# Altium footprint library SparkFun-RF.PCBLIB: 87 footprints (part 1 of 6)
Each footprint in its own frame and in the unit in brackets; x right, y up, seen from the top. Pads: shape width x height; smd on the part's side, far side on the other; paste and mask are expansions set on the pad; w line width, h text height; cw(c..) or ccw(c..) is an arc to the next point about the centre after c.
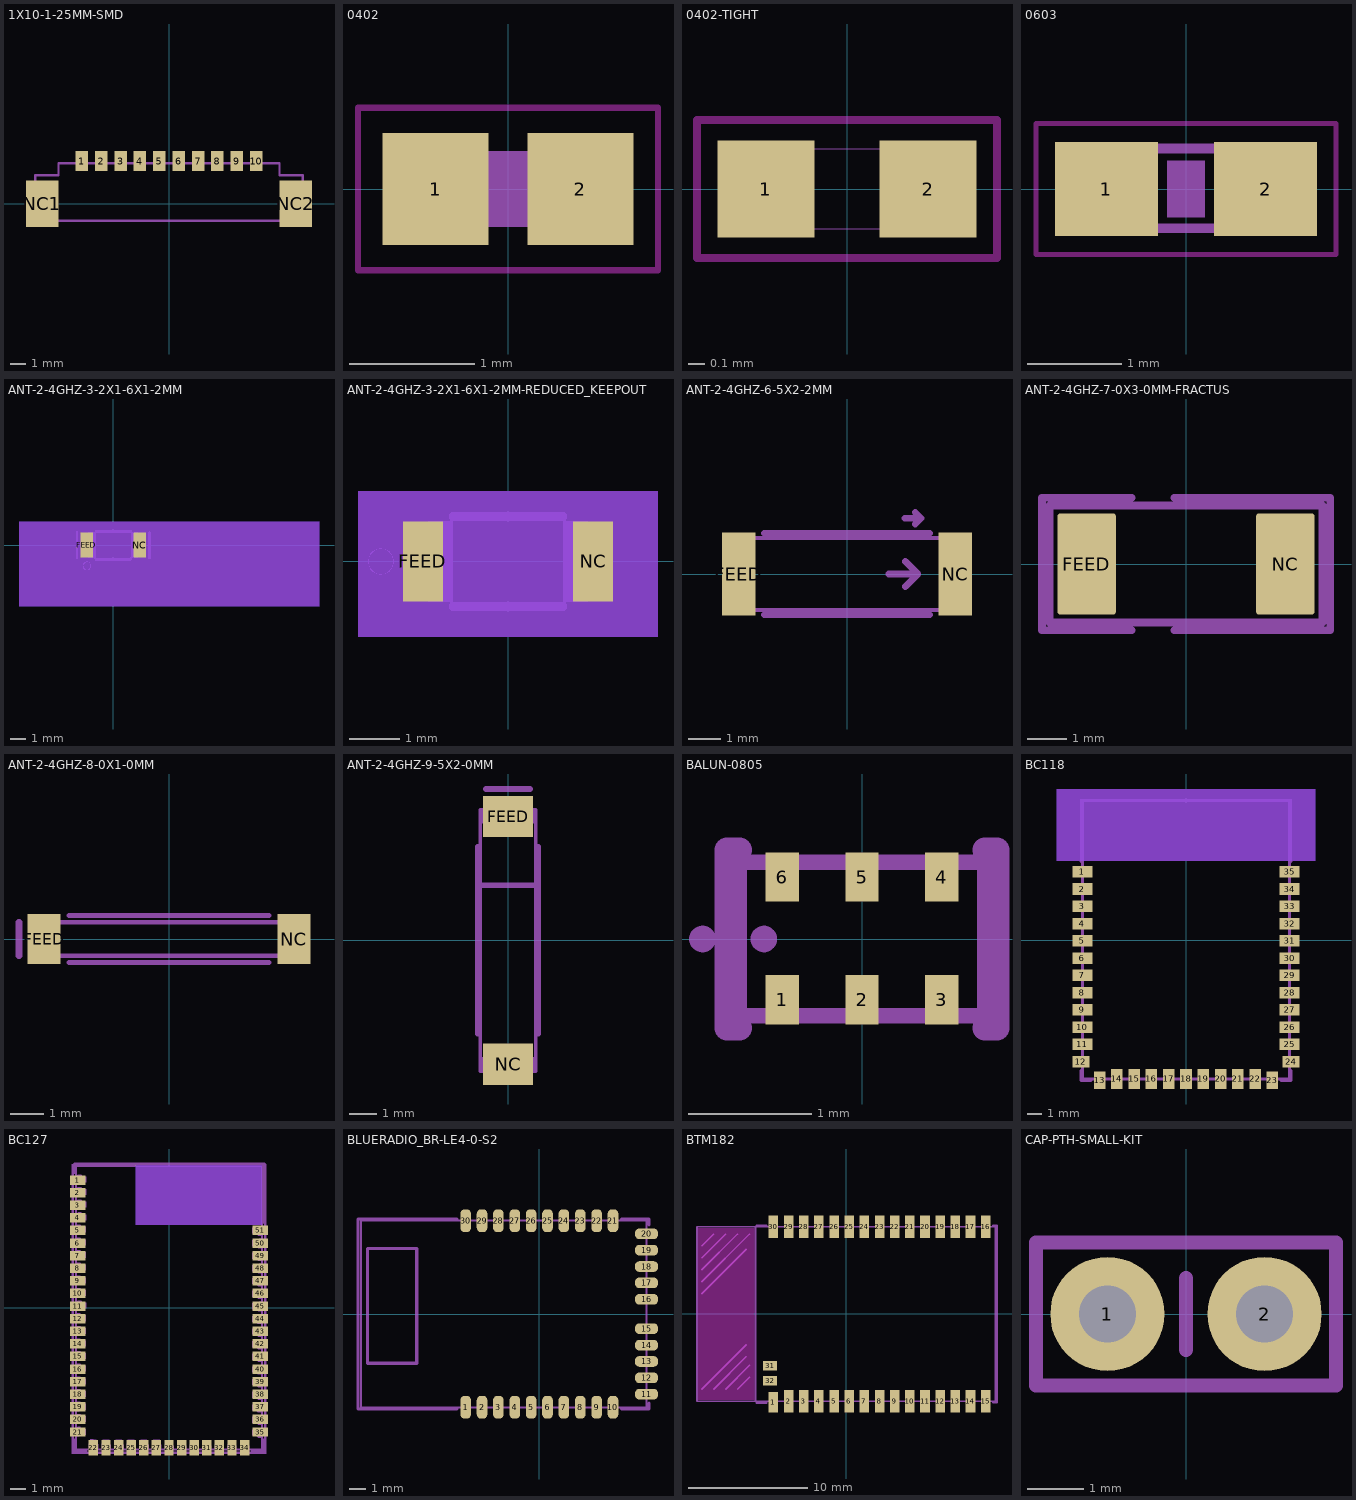
[diagram p0: the footprints below, top view; thin cyan lines are the x and y axes]

## 1X10-1-25MM-SMD [mil]
pads (12):
  rect 31.5x51.18 smd: 1(-221.46,108.27) 2(-172.24,108.27) 3(-123.03,108.27) 4(-73.82,108.27) 5(-24.61,108.27) 6(24.61,108.27) 7(73.82,108.27) 8(123.03,108.27) 9(172.24,108.27) 10(221.46,108.27)
  rect 82.68x118.11 smd: NC1(-321.85,0) NC2(321.85,0)
tDocu:
  lines w6: -339.57,71.93 -339.57,-43.31 339.57,-43.31 339.57,71.93 ; -280.51,102.36 280.51,102.36
tPlace:
  lines w6: -339.57,71.93 -280.51,71.93 -280.51,102.36 ; -279.53,102.36 -248.03,102.36 ; -267.72,-43.31 267.72,-43.31 ; 248.03,102.36 279.53,102.36 ; 280.51,102.36 280.51,71.93 339.57,71.93

## 0402 [mm]
pads (2):
  rect 0.85x0.9 smd: 1(-0.58,0) 2(0.58,0)
Top keep-out:
  lines w0.051: -1.2,-0.65 1.2,-0.65 1.2,0.65 -1.2,0.65 -1.2,-0.65
tDocu:
  region: -0.554,-0.305 -0.554,0.305 -0.254,0.305 -0.254,-0.305
  region: 0.259,-0.305 0.259,0.305 0.559,0.305 0.559,-0.305
  lines w0.152: -0.271,-0.229 0.271,-0.229 ; -0.271,0.229 0.271,0.229
tGlue:
  region: -0.2,-0.3 -0.2,0.3 0.2,0.3 0.2,-0.3

## 0402-TIGHT [mm]
pads (2):
  rect 0.6x0.6 smd: 1(-0.5,0) 2(0.5,0)
Top keep-out:
  lines w0.05: -0.926,-0.426 -0.926,0.426 0.926,0.426 0.926,-0.426 -0.926,-0.426
tDocu:
  region: -0.5,-0.25 -0.5,0.25 -0.3,0.25 -0.3,-0.25
  region: 0.5,0.25 0.5,-0.25 0.3,-0.25 0.3,0.25
  lines w0.003: -0.5,-0.25 -0.5,0.25 0.5,0.25 0.5,-0.25 -0.5,-0.25

## 0603 [mm]
pads (2):
  rect 1.1x1 smd: 1(-0.85,0) 2(0.85,0)
Top keep-out:
  lines w0.051: -1.6,-0.7 1.6,-0.7 1.6,0.7 -1.6,0.7 -1.6,-0.7
tDocu:
  region: -0.838,-0.47 -0.838,0.48 -0.338,0.48 -0.338,-0.47
  region: 0.33,-0.47 0.33,0.48 0.83,0.48 0.83,-0.47
  lines w0.102: -0.356,-0.419 0.356,-0.419 ; -0.356,0.432 0.356,0.432
tGlue:
  region: -0.2,-0.3 -0.2,0.3 0.2,0.3 0.2,-0.3

## ANT-2-4GHZ-3-2X1-6X1-2MM [mil]
pads (2):
  rect 31.5x62.99 smd: FEED(-66.93,0) NC(66.93,0)
Top keep-out:
  region: -236.22,-153.54 -236.22,59.06 515.75,59.06 515.75,-153.54
  region: -236.22,-153.54 -236.22,59.06 515.75,59.06 515.75,-153.54
Bottom keep-out:
  region: -236.22,-153.54 -236.22,59.06 515.75,59.06 515.75,-153.54
tDocu:
  region: -62.99,-31.5 -62.99,31.5 -43.31,31.5 -43.31,-31.5
  region: 43.31,-31.5 43.31,31.5 62.99,31.5 62.99,-31.5
  lines w0.1: -62.99,-31.5 -62.99,31.5 62.99,31.5 62.99,-31.5 -62.99,-31.5
tPlace:
  circle w0: c-66,-52 r10
  lines w8: -90.99,-31.5 -90.99,31.5 ; -42.99,-35.5 42.99,-35.5 ; -42.99,35.5 42.99,35.5 ; 90.99,-31.5 90.99,31.5

## ANT-2-4GHZ-3-2X1-6X1-2MM-REDUCED_KEEPOUT [mil]
pads (2):
  rect 31.5x62.99 smd: FEED(-66.93,0) NC(66.93,0)
Top keep-out:
  region: -118.11,-59.06 -118.11,55.12 118.11,55.12 118.11,-59.06
Route2:
  region: -118.11,-59.06 -118.11,55.12 118.11,55.12 118.11,-59.06
Route15:
  region: -118.11,-59.06 -118.11,55.12 118.11,55.12 118.11,-59.06
Bottom keep-out:
  region: -118.11,-59.06 -118.11,55.12 118.11,55.12 118.11,-59.06
tDocu:
  region: -62.99,-31.5 -62.99,31.5 -43.31,31.5 -43.31,-31.5
  region: 43.31,-31.5 43.31,31.5 62.99,31.5 62.99,-31.5
  lines w0.1: -62.99,-31.5 -62.99,31.5 62.99,31.5 62.99,-31.5 -62.99,-31.5
tPlace:
  circle w0: c-100,0 r10
  lines w8: -42.99,-35.5 42.99,-35.5 ; -42.99,35.5 42.99,35.5

## ANT-2-4GHZ-6-5X2-2MM [mil]
pads (2):
  rect 40x100 smd: FEED(-130,0) NC(130,0)
tDocu:
  lines w5: -127.95,-43.31 -127.95,43.31 127.95,43.31 127.95,-43.31 -127.95,-43.31
  text "AF" at 20,5 h49.6
tPlace:
  lines w8: -98.94,-48.94 98.94,-48.94 ; -98.94,48.94 98.94,48.94 ; 50,0 85,0 ; 69.69,66.93 88.94,66.93 ; 70,-15 85,0 ; 70,15 85,0 ; 81.81,59.8 88.94,66.93 ; 81.81,74.06 88.94,66.93

## ANT-2-4GHZ-7-0X3-0MM-FRACTUS [mm]
pads (2):
  rrect10% 1.5x2.6 smd: FEED(-2.55,0) NC(2.55,0)
tDocu:
  lines w0.203: -3.5,-1.5 -3.5,1.5 3.5,1.5 3.5,-1.5 -3.5,-1.5
tPlace:
  lines w0.2: -0.3,-1.7 3.7,-1.7 3.7,1.7 -0.3,1.7
  lines w0.203: -1.4,-1.7 -3.7,-1.7 -3.7,1.7 -1.4,1.7

## ANT-2-4GHZ-8-0X1-0MM [mm]
pads (2):
  rect 1x1.5 smd: FEED(-3.75,0) NC(3.75,0)
tDocu:
  lines w0.127: -4,-0.5 4,-0.5 4,0.5 -4,0.5 -4,-0.5
tPlace:
  lines w0.152: -3,-0.7 3,-0.7 ; -3,0.7 3,0.7
  lines w0.203: -4.5,-0.5 -4.5,0.5

## ANT-2-4GHZ-9-5X2-0MM [mm]
pads (2):
  rect 1.8x1.5 smd: FEED(0,4.5) NC(0,-4.5)
tDocu:
  region: -1,-4.75 -1,-4.25 1,-4.25 1,-4.75
  region: 1,4.75 1,4.25 -1,4.25 -1,4.75
  lines w0.127: -1,-4.75 -1,4.75 1,4.75 1,-4.75 -1,-4.75
tPlace:
  lines w0.203: -1.1,-3.4 -1.1,2 ; -1.1,3.4 -1.1,2 ; -0.8,5.5 0.8,5.5 ; 1.1,-3.4 1.1,2 ; 1.1,3.4 1.1,2 ; -1.1,2 1.1,2

## BALUN-0805 [mm]
pads (6):
  rect 0.27x0.4 smd: 1(-0.65,-0.495) 2(0,-0.495) 3(0.65,-0.495) 4(0.65,0.505) 5(0,0.505) 6(-0.65,0.505)
tDocu:
  lines w0.127: -1,-0.625 1,-0.625 1,0.625 -1,0.625 -1,-0.625
tPlace:
  circle w0.127: c-1.3,0 r0.045
  circle w0.127: c-0.8,0 r0.045
  lines w0.203: -1,-0.725 -1.1,-0.725 -1.1,0.725 -1,0.725 ; 1,-0.725 1.1,-0.725 1.1,0.725 1,0.725

## BC118 [mil]
pads (35):
  rect 55.12x31.5 smd: 1(-283.46,187.01) 2(-283.46,139.76) 3(-283.46,92.52) 4(-283.46,45.28) 5(-283.46,-1.97) 6(-283.46,-49.21) 7(-283.46,-96.46) 8(-283.46,-143.7) 9(-283.46,-190.94) 10(-283.46,-238.19) 11(-283.46,-285.43) 25(283.46,-285.43) 26(283.46,-238.19) 27(283.46,-190.94) 28(283.46,-143.7) 29(283.46,-96.46) 30(283.46,-49.21) 31(283.46,-1.97) 32(283.46,45.28) 33(283.46,92.52) 34(283.46,139.76) 35(283.46,187.01)
  rect 47.24x31.5 smd: 12(-287.4,-332.68) 24(287.4,-332.68)
  rect 31.5x47.24 smd: 13(-236.22,-383.86) 23(236.22,-383.86)
  rect 31.5x55.12 smd: 14(-188.98,-379.92) 15(-141.73,-379.92) 16(-94.49,-379.92) 17(-47.24,-379.92) 18(0,-379.92) 19(47.24,-379.92) 20(94.49,-379.92) 21(141.73,-379.92) 22(188.98,-379.92)
Top keep-out:
  region: -354.33,216.54 -354.33,413.39 354.33,413.39 354.33,216.54
  region: -354.33,216.54 -354.33,413.39 354.33,413.39 354.33,216.54
  region: -354.33,216.54 -354.33,413.39 354.33,413.39 354.33,216.54
Bottom keep-out:
  region: -354.33,216.54 -354.33,413.39 354.33,413.39 354.33,216.54
  region: -354.33,216.54 -354.33,413.39 354.33,413.39 354.33,216.54
tDocu:
  lines w8: -283.46,-379.92 -283.46,379.92 283.46,379.92 283.46,-379.92 -283.46,-379.92
tPlace:
  lines w8: -287.4,-356.3 -287.4,-383.86 -259.84,-383.86 ; -287.4,214.57 -287.4,383.86 287.4,383.86 287.4,214.57 ; 259.84,-383.86 287.4,-383.86 287.4,-356.3

## BC127 [mm]
pads (51):
  rect 1x0.6 smd paste+0: 1(-5.8,8.1) 2(-5.8,7.3) 3(-5.8,6.5) 4(-5.8,5.7) 5(-5.8,4.9) 6(-5.8,4.1) 7(-5.8,3.3) 8(-5.8,2.5) 9(-5.8,1.7) 10(-5.8,0.9) 11(-5.8,0.1) 12(-5.8,-0.7) 13(-5.8,-1.5) 14(-5.8,-2.3) 15(-5.8,-3.1) 16(-5.8,-3.9) 17(-5.8,-4.7) 18(-5.8,-5.5) 19(-5.8,-6.3) 20(-5.8,-7.1) 21(-5.8,-7.9) 35(5.8,-7.9) 36(5.8,-7.1) 37(5.8,-6.3) 38(5.8,-5.5) 39(5.8,-4.7) 40(5.8,-3.9) 41(5.8,-3.1) 42(5.8,-2.3) 43(5.8,-1.5) 44(5.8,-0.7) 45(5.8,0.1) 46(5.8,0.9) 47(5.8,1.7) 48(5.8,2.5) 49(5.8,3.3) 50(5.8,4.1) 51(5.8,4.9)
  rect 0.6x1 smd paste+0: 22(-4.8,-8.9) 23(-4,-8.9) 24(-3.2,-8.9) 25(-2.4,-8.9) 26(-1.6,-8.9) 27(-0.8,-8.9) 28(0,-8.9) 29(0.8,-8.9) 30(1.6,-8.9) 31(2.4,-8.9) 32(3.2,-8.9) 33(4,-8.9) 34(4.8,-8.9)
Top keep-out:
  region: 5.9,9 -2.1,9 -2.1,5.25 5.9,5.25
Bottom keep-out:
  region: 5.9,9 -2.1,9 -2.1,5.25 5.9,5.25
Top Paste:
  drawing of 51 lines, arcs and shapes, not listed
tDocu:
  lines w0.127: -5.9,-9 -5.9,9 5.9,9 5.9,-9 -5.9,-9
tPlace:
  lines w0.203: -6,-8.4 -6,-9.1 -5.3,-9.1 ; -6,8.6 -6,9.1 6.05,9.1 6.05,5.4 ; 5.3,-9.1 6,-9.1 6,-8.4
Mech64:
  drawing of 2261 lines, arcs and shapes, not listed
  text "//kentro/work/Production/AOI Parts/Eric/EROCKMOD.bmp" at -6.285,-9.261 h0.04

## BLUERADIO_BR-LE4-0-S2 [mm]
pads (30):
  rrect80% 0.65x1.4 smd paste+0: 1(-4.5,-5.7) 2(-3.5,-5.7) 3(-2.5,-5.7) 4(-1.5,-5.7) 5(-0.5,-5.7) 6(0.5,-5.7) 7(1.5,-5.7) 8(2.5,-5.7) 9(3.5,-5.7) 10(4.5,-5.7) 21(4.5,5.7) 22(3.5,5.7) 23(2.5,5.7) 24(1.5,5.7) 25(0.5,5.7) 26(-0.5,5.7) 27(-1.5,5.7) 28(-2.5,5.7) 29(-3.5,5.7) 30(-4.5,5.7)
  rrect80% 1.4x0.65 smd paste+0: 11(6.55,-4.9) 12(6.55,-3.9) 13(6.55,-2.9) 14(6.55,-1.9) 15(6.55,-0.9) 16(6.55,0.9) 17(6.55,1.9) 18(6.55,2.9) 19(6.55,3.9) 20(6.55,4.9)
Top Paste:
  region: -4.7,5.2 -4.7,6.2 -4.3,6.2 -4.3,5.2
  region: -3.7,5.2 -3.7,6.2 -3.3,6.2 -3.3,5.2
  region: -2.7,5.2 -2.7,6.2 -2.3,6.2 -2.3,5.2
  region: -1.7,5.2 -1.7,6.2 -1.3,6.2 -1.3,5.2
  region: -0.7,5.2 -0.7,6.2 -0.3,6.2 -0.3,5.2
  region: 0.3,5.2 0.3,6.2 0.7,6.2 0.7,5.2
  region: 1.3,5.2 1.3,6.2 1.7,6.2 1.7,5.2
  region: 2.3,5.2 2.3,6.2 2.7,6.2 2.7,5.2
  region: 3.3,5.2 3.3,6.2 3.7,6.2 3.7,5.2
  region: 4.3,5.2 4.3,6.2 4.7,6.2 4.7,5.2
  region: 7.05,4.7 6.05,4.7 6.05,5.1 7.05,5.1
  region: 7.05,3.7 6.05,3.7 6.05,4.1 7.05,4.1
  region: 7.05,2.7 6.05,2.7 6.05,3.1 7.05,3.1
  region: 7.05,1.7 6.05,1.7 6.05,2.1 7.05,2.1
  region: 7.05,0.7 6.05,0.7 6.05,1.1 7.05,1.1
  region: 7.05,-1.1 6.05,-1.1 6.05,-0.7 7.05,-0.7
  region: 7.05,-2.1 6.05,-2.1 6.05,-1.7 7.05,-1.7
  region: 7.05,-3.1 6.05,-3.1 6.05,-2.7 7.05,-2.7
  region: 7.05,-4.1 6.05,-4.1 6.05,-3.7 7.05,-3.7
  region: 7.05,-5.1 6.05,-5.1 6.05,-4.7 7.05,-4.7
  region: 4.7,-5.2 4.7,-6.2 4.3,-6.2 4.3,-5.2
  region: 3.7,-5.2 3.7,-6.2 3.3,-6.2 3.3,-5.2
  region: 2.7,-5.2 2.7,-6.2 2.3,-6.2 2.3,-5.2
  region: 1.7,-5.2 1.7,-6.2 1.3,-6.2 1.3,-5.2
  region: 0.7,-5.2 0.7,-6.2 0.3,-6.2 0.3,-5.2
  region: -0.3,-5.2 -0.3,-6.2 -0.7,-6.2 -0.7,-5.2
  region: -1.3,-5.2 -1.3,-6.2 -1.7,-6.2 -1.7,-5.2
  region: -2.3,-5.2 -2.3,-6.2 -2.7,-6.2 -2.7,-5.2
  region: -3.3,-5.2 -3.3,-6.2 -3.7,-6.2 -3.7,-5.2
  region: -4.3,-5.2 -4.3,-6.2 -4.7,-6.2 -4.7,-5.2
tDocu:
  lines w0.127: -10.9,-5.7 -10.9,5.7 6.55,5.7 6.55,-5.7 -10.9,-5.7
tPlace:
  lines w0.203: -5.045,-5.8 -11.08,-5.8 -11.08,5.8 -5.045,5.8 ; 5.04,-5.8 6.7,-5.8 6.7,-5.45 ; 5.04,5.8 6.7,5.8 6.7,5.45 ; -10.5,-3 -10.5,4 -7.5,4 -7.5,-3 -10.5,-3

## BTM182 [mil]
pads (32):
  rect 31.5x66.93 smd: 1(-240.16,-291.34)
  rect 31.5x74.8 smd: 2(-190.16,-287.4) 3(-140.16,-287.4) 4(-90.16,-287.4) 5(-40.16,-287.4) 6(9.84,-287.4) 7(59.84,-287.4) 8(109.84,-287.4) 9(159.84,-287.4) 10(209.84,-287.4) 11(259.84,-287.4) 12(309.84,-287.4) 13(359.84,-287.4) 14(409.84,-287.4) 15(459.84,-287.4) 16(459.84,287.4) 17(409.84,287.4) 18(359.84,287.4) 19(309.84,287.4) 20(259.84,287.4) 21(209.84,287.4) 22(159.84,287.4) 23(109.84,287.4) 24(59.84,287.4) 25(9.84,287.4) 26(-40.16,287.4) 27(-90.16,287.4) 28(-140.16,287.4) 29(-190.16,287.4) 30(-240.16,287.4)
  rect 47.24x31.5 smd: 31(-251.18,-170.87) 32(-251.18,-220.87)
Top keep-out:
  region: -488.19,-283.46 -488.19,283.46 -303.15,283.46 -303.15,-283.46
tDocu:
  lines w5: -476.38,-248.03 -329.53,-101.18 ; -476.38,66.93 -329.53,213.78 ; -476.38,106.3 -318.9,263.78 ; -476.38,145.67 -358.27,263.78 ; -476.38,185.04 -397.64,263.78 ; -476.38,224.41 -437.01,263.78 ; -437.01,-248.03 -329.53,-140.55 ; -397.64,-248.03 -318.9,-169.29 ; -358.27,-248.03 -318.9,-208.66 ; -299.21,-287.4 -492.13,-287.4 -492.13,287.4 -299.21,287.4 ; -299.21,-287.4 492.13,-287.4 492.13,287.4 -299.21,287.4 ; -299.21,-287.4 -299.21,287.4
  text "NO COPPER" at -460.63,-15.75 h24.8
tPlace:
  lines w8: -295.9,-292.18 -264.4,-292.18 ; -295.9,291.82 -264.4,291.82 ; 484.25,-291.34 496.06,-291.34 496.06,291.34 484.25,291.34

## CAP-PTH-SMALL-KIT [mil]
pads (2):
  round 80 hole 40: 1(-55,0) 2(55,0)
Top Solder:
  region: -55.3,-17.3 -58.7,-17.38 -65.05,-14.92 -69.97,-10.23 -72.72,-4 -72.8,-0.6 -72.89,2.97 -70.32,9.64 -65.4,14.81 -58.87,17.71 -55.3,17.8 -51.78,17.74 -45.32,14.94 -40.42,9.87 -37.84,3.32 -37.9,-0.2 -37.93,-3.63 -40.61,-9.95 -45.51,-14.76 -51.87,-17.33 -55.3,-17.3
  region: 54.9,-17.3 51.5,-17.38 45.15,-14.92 40.23,-10.23 37.48,-4 37.4,-0.6 37.31,2.97 39.88,9.64 44.8,14.81 51.33,17.71 54.9,17.8 58.42,17.74 64.88,14.94 69.78,9.87 72.36,3.32 72.3,-0.2 72.27,-3.63 69.59,-9.95 64.69,-14.76 58.33,-17.33 54.9,-17.3
Bottom Solder:
  region: -55.2,-37.3 -58.85,-37.35 -66.04,-36.02 -72.83,-33.31 -78.96,-29.34 -84.2,-24.24 -88.34,-18.22 -91.23,-11.5 -92.75,-4.35 -92.8,-0.7 -92.84,3.04 -91.47,10.39 -88.7,17.33 -84.62,23.59 -79.39,28.94 -73.23,33.17 -66.35,36.11 -59.04,37.66 -55.3,37.7 -51.56,37.65 -44.25,36.08 -37.39,33.12 -31.23,28.88 -26.02,23.51 -21.96,17.24 -19.2,10.29 -17.85,2.94 -17.9,-0.8 -17.94,-4.43 -19.43,-11.55 -22.29,-18.23 -26.39,-24.24 -31.59,-29.32 -37.67,-33.29 -44.42,-36 -51.57,-37.34 -55.2,-37.3
  region: 55,-37.3 51.35,-37.35 44.16,-36.02 37.37,-33.31 31.24,-29.33 26.01,-24.24 21.87,-18.21 18.98,-11.5 17.46,-4.35 17.41,-0.7 17.36,3.04 18.73,10.39 21.51,17.33 25.59,23.59 30.81,28.94 36.98,33.17 43.85,36.11 51.16,37.66 54.9,37.7 58.64,37.65 65.95,36.08 72.81,33.12 78.97,28.88 84.18,23.51 88.24,17.24 91,10.29 92.35,2.94 92.3,-0.8 92.26,-4.43 90.77,-11.55 87.91,-18.23 83.81,-24.24 78.61,-29.32 72.53,-33.29 65.78,-36 58.63,-37.34 55,-37.3
tPlace:
  lines w10: 0,-25 0,25 ; -105,-50 105,-50 105,50 -105,50 -105,-50